# EAGLE library part PIC18F2455 (library SparkFun)
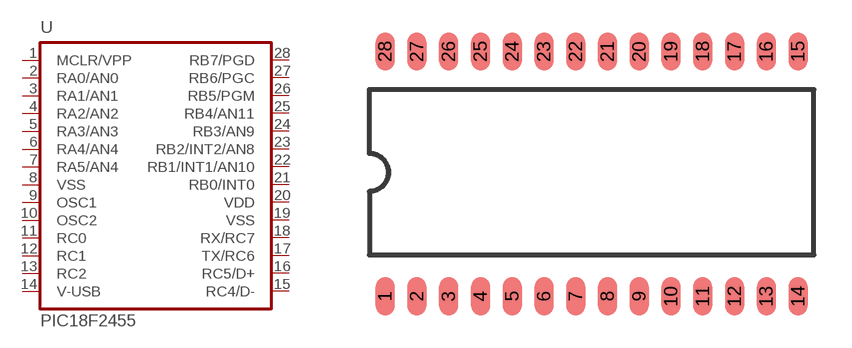
[diagram p122: symbol with the pads of SO-28W; footprint SO-28W]

Designator prefix -

## PIC18F2455SMD  [SO-28W]
1  MCLR/VPP
2  RA0/AN0
3  RA1/AN1
4  RA2/AN2
5  RA3/AN3
6  RA4/AN4
7  RA5/AN4
8  VSS  pwr
9  OSC1
10  OSC2
11  RC0
12  RC1
13  RC2
14  V-USB
15  RC4/D-
16  RC5/D+
17  TX/RC6
18  RX/RC7  in
19  VSS  pwr
20  VDD  pwr
21  RB0/INT0
22  RB1/INT1/AN10
23  RB2/INT2/AN8
24  RB3/AN9
25  RB4/AN11
26  RB5/PGM
27  RB6/PGC
28  RB7/PGD

## Footprint SO-28W (pad centres in mm)
Small Outline Wide Plastic Gull Wing 300-mil body, package type SO
smd 0.762 x 1.524: 1 -8.255,-4.953; 2 -6.985,-4.953; 3 -5.715,-4.953; 4 -4.445,-4.953; 5 -3.175,-4.953; 6 -1.905,-4.953; 7 -0.635,-4.953; 8 0.635,-4.953; 9 1.905,-4.953; 10 3.175,-4.953; 11 4.445,-4.953; 12 5.715,-4.953; 13 6.985,-4.953; 14 8.255,-4.953; 15 8.255,4.826; 16 6.985,4.826; 17 5.715,4.826; 18 4.445,4.826; 19 3.175,4.826; 20 1.905,4.826; 21 0.635,4.826; 22 -0.635,4.826; 23 -1.905,4.826; 24 -3.175,4.826; 25 -4.445,4.826; 26 -5.715,4.826; 27 -6.985,4.826; 28 -8.255,4.826